# Altium integrated library Registros de desplazamientos de contadores.IntLib: 1 symbol
Pins are listed as number, name and electrical type; pins without a type are passive.

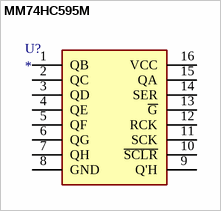
[diagram p0: symbol MM74HC595M]

## MM74HC595M
designator U?
ComponentLink1Description: datasheet; ComponentLink1URL: https://www.mouser.es/datasheet/2/308/1/MM74HC595_D-1811503.pdf
footprint SOIC127P600X175-16N
pins: 1 QB, 2 QC, 3 QD, 4 QE, 5 QF, 6 QG, 7 QH, 8 GND, 9 Q'H, 10 ~{SCLR}, 11 SCK, 12 RCK, 13 ~{G}, 14 SER, 15 QA, 16 VCC